# Altium footprint library PCB - POWER MODULE - WURTH WPME-FDSM SIP-3 173010x35.PCBLIB: 1 footprints
Each footprint in its own frame and in the unit in brackets; x right, y up, seen from the top. Pads: shape width x height; smd on the part's side, far side on the other; paste and mask are expansions set on the pad; w line width, h text height; cw(c..) or ccw(c..) is an arc to the next point about the centre after c.
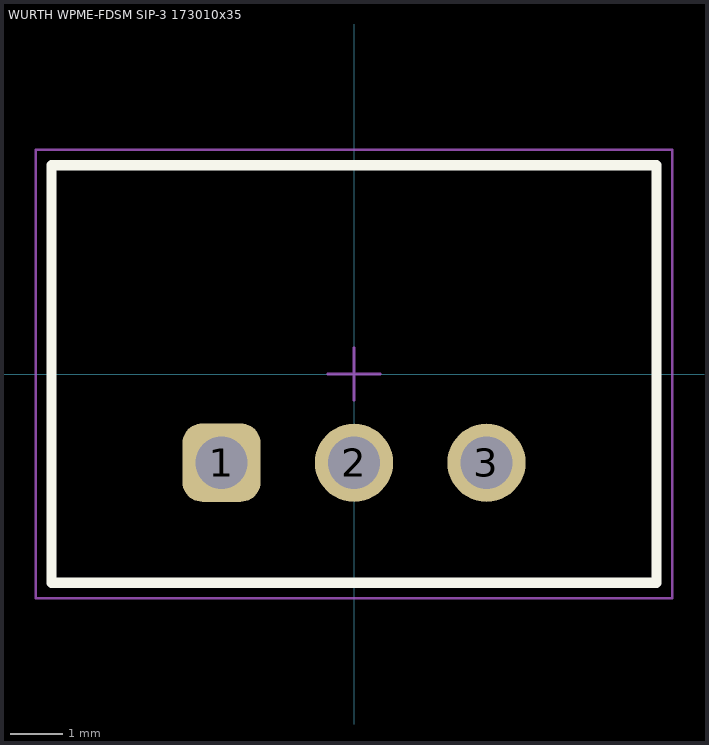
[diagram p0: the footprint, top view; thin cyan lines are the x and y axes]

## WURTH WPME-FDSM SIP-3 173010x35 [mm] "Fixed Step Down Regulator Module, SIP-3, body 11.60x80mm"
height 10.4
pads (3):
  rrect50% 1.5x1.5 hole 1: 1(-2.54,-1.7)
  round 1.5 hole 1: 2(0,-1.7) 3(2.54,-1.7)
Top Overlay:
  lines w0.2: -5.8,-4 -5.8,4 5.8,4 5.8,-4 -5.8,-4
Top Assembly:
  lines w0.1: -5.8,-4 5.8,-4 ; -5.8,-4 -5.8,4 ; -5.8,-4 5.8,-4 ; -5.8,-4 -5.8,4 ; -5.8,4 5.8,4 ; -5.8,4 5.8,4 ; 5.8,-4 5.8,4 ; 5.8,-4 5.8,4
Top Courtyard (Mech15):
  lines w0.05: -0.5,0 0.5,0 ; 0,-0.5 0,0.5 ; -6.1,-4.3 6.1,-4.3 6.1,4.3 -6.1,4.3 -6.1,-4.3
3D body "173010x35.stp": height 10.45, standoff -4.05, extent -5.8,-4 5.8,4